# Altium schematic symbol library Buzzer.SchLib: 1 symbol
Pins are listed as number, name and electrical type; pins without a type are passive.

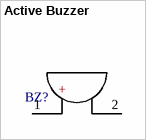
[diagram p0: symbol Active Buzzer]

## Active Buzzer
designator BZ?
5V Buzzer 12X8 7.62; Manufacturer Part Number 1: *; Manufacturer 1: *; Value: *
footprint Active Buzzer (D12 H9.5 P7.62)
pins: 1 +, 2 -